# Altium schematic symbol library TPS62842DGRR.SchLib: 1 symbol
Pins are listed as number, name and electrical type; pins without a type are passive.

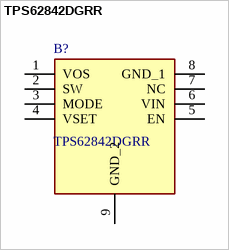
[diagram p0: symbol TPS62842DGRR]

## TPS62842DGRR
designator B?
Switching Voltage Regulators 60-nA IQ, 1.8-V to 6.5-VIN, high-efficiency 750-mA step-down converter 8-HVSSOP -40 to 125; Manufacturer_Name: Texas Instruments; Geometry.Height: 1.1mm; Mouser Part Number: 595-TPS62842DGRR; Mouser Price/Stock: https://www.mouser.co.uk/ProductDetail/Texas-Instruments/TPS62842DGRR?qs=xZ%2FP%252Ba9zWqbpi7pDQDs52A%3D%3D; Manufacturer_Part_Number: TPS62842DGRR; Datasheet Link: https://www.ti.com/lit/ds/symlink/tps62840.pdf
footprint SOP65P490X110-9N
pins: 1 VOS, 2 SW, 3 MODE, 4 VSET, 5 EN, 6 VIN, 7 NC, 8 GND_1, 9 GND_2